# Altium footprint library Securifi_PcbLib.PcbLib: 2 footprints
Each footprint in its own frame and in the unit in brackets; x right, y up, seen from the top. Pads: shape width x height; smd on the part's side, far side on the other; paste and mask are expansions set on the pad; w line width, h text height; cw(c..) or ccw(c..) is an arc to the next point about the centre after c.
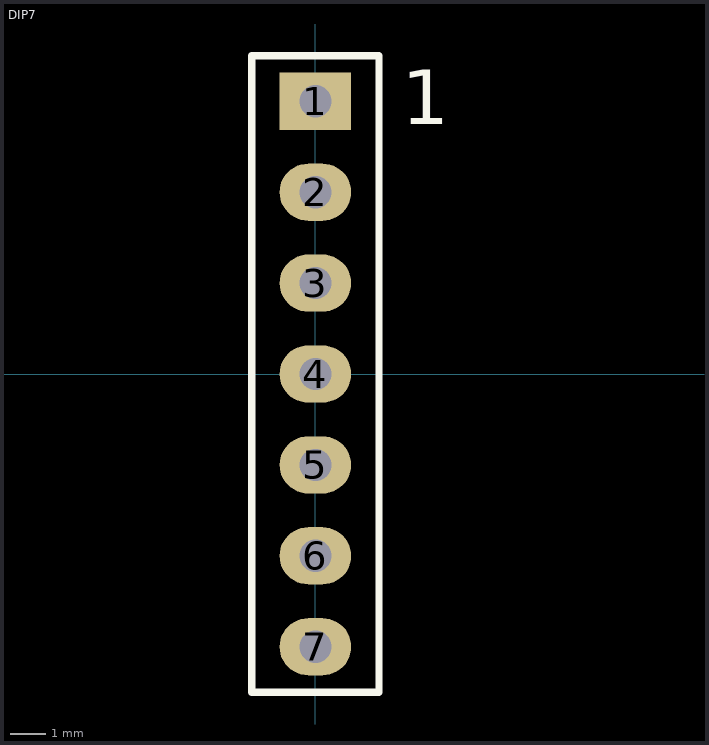
[diagram p0: the footprints below, top view; thin cyan lines are the x and y axes]

## DIP7 [mm]
pads (7):
  rect 2x1.6 hole 0.9: 1(0,7.62)
  oval 2x1.6 hole 0.9: 2(0,5.08) 3(0,2.54) 4(0,0) 5(0,-2.54) 6(0,-5.08) 7(0,-7.62)
Top Overlay:
  lines w0.2: -1.778,-8.89 -1.778,8.89 1.778,8.89 1.778,-8.89 -1.778,-8.89
  text "1" at 2.413,6.985 h1.52
3D body "c-534237-5-s-3d.stp": height 8.64, standoff -2.92, extent -1.778,-8.89 1.778,8.89

## PCBComponent_1 [mm]